# Altium integrated library LM317KTTR.IntLib: 1 symbol
Pins are listed as number, name and electrical type; pins without a type are passive.

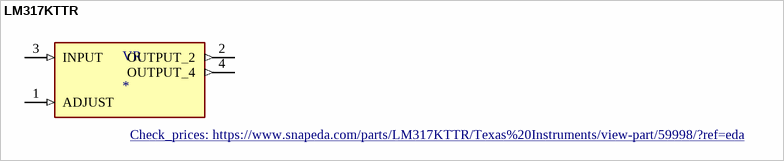
[diagram p0: symbol LM317KTTR]

## LM317KTTR
designator VR
1.5-A, 40-V, adjustable linear voltage regulator 3-DDPAK/TO-263 0 to 125; MP: LM317KTTR; MF: Texas Instruments; Digi-Key_Part_Number: 296-21390-1-ND; Arrow_Electronics-Purchase-URL: https://snapeda.com/shop?store=Arrow+Electronics&id=59998; Value: *; SnapEDA_Link: https://www.snapeda.com/parts/LM317KTTR/Texas%20Instruments/view-part/59998/?ref=snap; DigiKey-Purchase-URL: https://snapeda.com/shop?store=DigiKey&id=59998; Package: TO-263-3 Texas Instruments; Texas_Instruments-Purchase-URL: https://snapeda.com/shop?store=Texas+Instruments&id=59998; Mouser-Purchase-URL: https://snapeda.com/shop?store=Mouser&id=59998; Check_prices: https://www.snapeda.com/parts/LM317KTTR/Texas%20Instruments/view-part/59998/?ref=eda
footprint TO254P1524X483-4N
pins: 1 ADJUST (in), 2 OUTPUT_2 (out), 3 INPUT (in), 4 OUTPUT_4 (out)